# Altium footprint library SOD123 1N4148.PcbLib: 1 footprints
Each footprint in its own frame and in the unit in brackets; x right, y up, seen from the top. Pads: shape width x height; smd on the part's side, far side on the other; paste and mask are expansions set on the pad; w line width, h text height; cw(c..) or ccw(c..) is an arc to the next point about the centre after c.
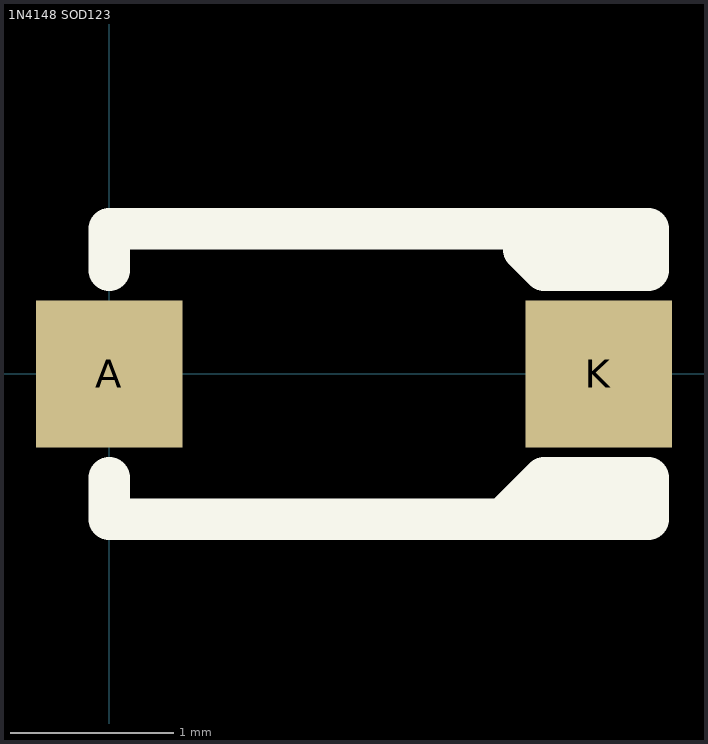
[diagram p0: the footprint, top view; thin cyan lines are the x and y axes]

## 1N4148 SOD123 [mm]
pads (2):
  rect 0.9x0.9 smd: A(0,0) K(3,0)
Top Overlay:
  lines w0.254: 0,-0.635 0,-0.889 3.302,-0.889 3.302,-0.635 2.667,-0.635 2.413,-0.889 ; 0,0.635 0,0.889 3.302,0.889 3.302,0.635 2.667,0.635 2.54,0.762